# Altium footprint library COMPONENTES.PcbLib: 191 footprints (part 11 of 12)
Each footprint in its own frame and in the unit in brackets; x right, y up, seen from the top. Pads: shape width x height; smd on the part's side, far side on the other; paste and mask are expansions set on the pad; w line width, h text height; cw(c..) or ccw(c..) is an arc to the next point about the centre after c.
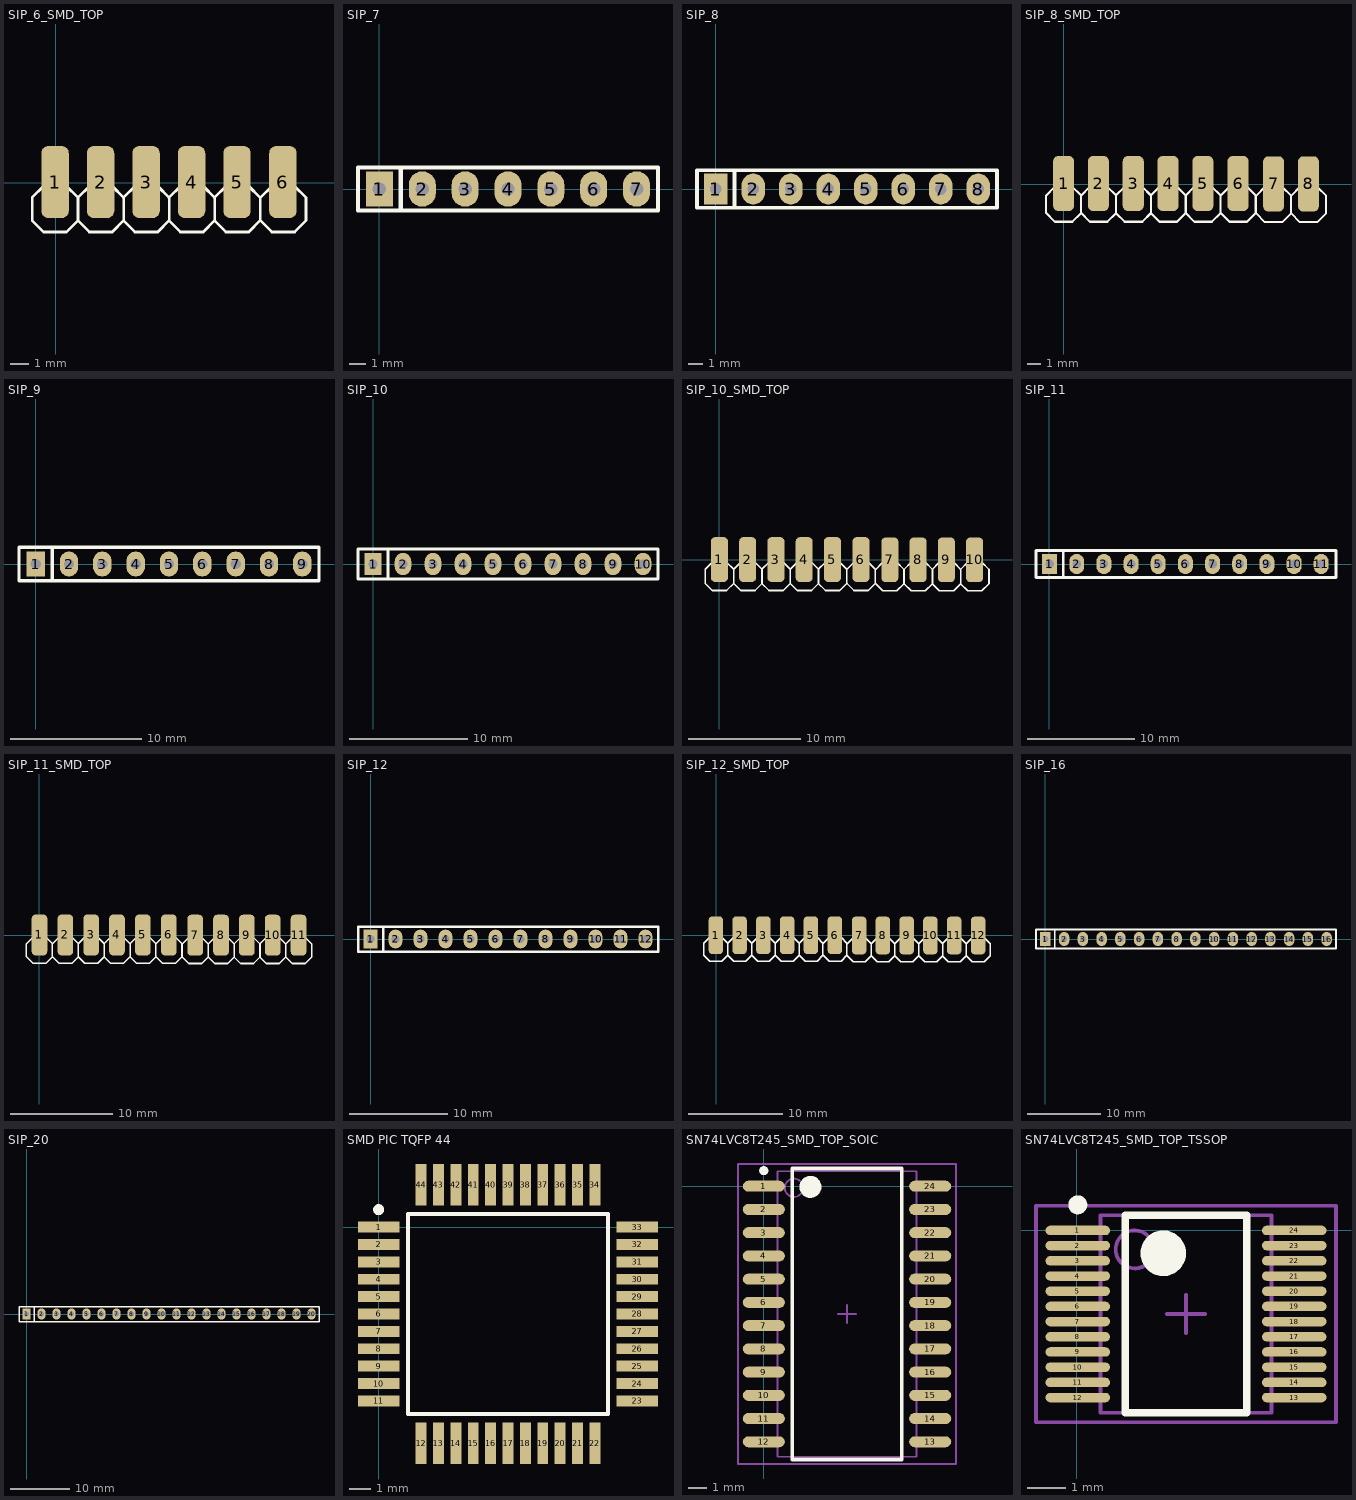
[diagram p10: the footprints below, top view; thin cyan lines are the x and y axes]

## SIP_6_SMD_TOP [mm]
pads (6):
  rrect50% 1.524x4 smd: 1(-0.05,0.025) 2(2.475,0.025) 3(5,0.025) 4(7.525,0.025) 5(10.05,0.025) 6(12.601,0.025)
Top Overlay:
  lines w0.152: 3.745,-2.11 4.38,-2.745 5.65,-2.745 6.285,-2.11 6.285,-0.84 5.65,-0.205 4.38,-0.205 3.745,-0.84 ; 6.27,-2.11 6.905,-2.745 8.175,-2.745 8.81,-2.11 8.81,-0.84 8.175,-0.205 6.905,-0.205 6.27,-0.84 ; 8.795,-2.11 9.43,-2.745 10.7,-2.745 11.335,-2.11 11.335,-0.84 10.7,-0.205 9.43,-0.205 8.795,-0.84 ; 11.346,-2.11 11.981,-2.745 13.251,-2.745 13.886,-2.11 13.886,-0.84 13.251,-0.205 11.981,-0.205 11.346,-0.84 ; 1.22,-2.11 1.22,-0.84 ; 1.22,-2.11 0.585,-2.745 -0.685,-2.745 -1.32,-2.11 -1.32,-0.84 -0.685,-0.205 0.585,-0.205 1.22,-0.84 ; 1.22,-2.11 1.855,-2.745 3.125,-2.745 3.76,-2.11 3.76,-0.84 3.125,-0.205 1.855,-0.205 1.22,-0.84

## SIP_7 [mm]
height 2.65
pads (7):
  rect 1.6x2.1 hole 0.8: 1(0,0)
  oval 1.6x2.1 hole 0.8: 2(2.54,0) 3(5.08,0) 4(7.62,0) 5(10.16,0) 6(12.7,0) 7(15.24,0)
Top Overlay:
  lines w0.254: 1.27,-1.27 1.27,1.27 ; -1.27,-1.27 -1.27,1.27 16.51,1.27 16.51,-1.27 -1.27,-1.27

## SIP_8 [mm]
height 2.65
pads (8):
  rect 1.6x2.1 hole 0.8: 1(0,0)
  oval 1.6x2.1 hole 0.8: 2(2.54,0) 3(5.08,0) 4(7.62,0) 5(10.16,0) 6(12.7,0) 7(15.24,0) 8(17.78,0)
Top Overlay:
  lines w0.254: 1.27,-1.27 1.27,1.27 ; -1.27,-1.27 -1.27,1.27 19.05,1.27 19.05,-1.27 -1.27,-1.27

## SIP_8_SMD_TOP [mm]
pads (8):
  rrect50% 1.524x4 smd: 1(0,0.05) 2(2.525,0.05) 3(5.05,0.05) 4(7.575,0.05) 5(10.1,0.05) 6(12.651,0.05) 7(15.225,0.025) 8(17.75,0.025)
Top Overlay:
  lines w0.152: 3.795,-2.085 4.43,-2.72 5.7,-2.72 6.335,-2.085 6.335,-0.815 5.7,-0.18 4.43,-0.18 3.795,-0.815 ; 6.32,-2.085 6.955,-2.72 8.225,-2.72 8.86,-2.085 8.86,-0.815 8.225,-0.18 6.955,-0.18 6.32,-0.815 ; 8.845,-2.085 9.48,-2.72 10.75,-2.72 11.385,-2.085 11.385,-0.815 10.75,-0.18 9.48,-0.18 8.845,-0.815 ; 11.396,-2.085 12.031,-2.72 13.301,-2.72 13.936,-2.085 13.936,-0.815 13.301,-0.18 12.031,-0.18 11.396,-0.815 ; 13.955,-2.11 14.59,-2.745 15.86,-2.745 16.495,-2.11 ; 13.955,-0.84 14.59,-0.205 15.86,-0.205 16.495,-0.84 ; 1.27,-2.085 1.905,-2.72 3.175,-2.72 3.81,-2.085 3.81,-0.815 3.175,-0.18 1.905,-0.18 1.27,-0.815 ; 1.27,-2.085 0.635,-2.72 -0.635,-2.72 -1.27,-2.085 -1.27,-0.815 -0.635,-0.18 0.635,-0.18 1.27,-0.815 ; 1.27,-2.085 1.27,-0.815 ; 16.495,-2.11 17.13,-2.745 18.4,-2.745 19.035,-2.11 19.035,-0.84 18.4,-0.205 17.13,-0.205 16.495,-0.84 ; 16.495,-2.11 16.495,-0.84

## SIP_9 [mm]
height 2.65
pads (9):
  rect 1.4x1.9 hole 0.8: 1(0,0)
  oval 1.4x1.9 hole 0.8: 2(2.54,0) 3(5.08,0) 4(7.62,0) 5(10.16,0) 6(12.7,0) 7(15.24,0) 8(17.78,0) 9(20.32,0)
Top Overlay:
  lines w0.254: 1.27,-1.27 1.27,1.27 ; -1.27,-1.27 21.59,-1.27 21.59,1.27 -1.27,1.27 -1.27,-1.27

## SIP_10 [mm]
height 2.65
pads (10):
  rect 1.4x1.9 hole 0.8: 1(0,0)
  oval 1.4x1.9 hole 0.8: 2(2.54,0) 3(5.08,0) 4(7.62,0) 5(10.16,0) 6(12.7,0) 7(15.24,0) 8(17.78,0) 9(20.32,0) 10(22.86,0)
Top Overlay:
  lines w0.254: 1.27,-1.27 1.27,1.27 ; -1.27,-1.27 -1.27,1.27 24.13,1.27 24.13,-1.27 -1.27,-1.27

## SIP_10_SMD_TOP [mm]
pads (10):
  rrect50% 1.524x4 smd: 1(0,0) 2(2.525,0) 3(5.05,0) 4(7.575,0) 5(10.1,0) 6(12.651,0) 7(15.225,-0.025) 8(17.75,-0.025) 9(20.275,-0.025) 10(22.8,-0.025)
Top Overlay:
  lines w0.152: 3.795,-2.135 4.43,-2.77 5.7,-2.77 6.335,-2.135 6.335,-0.865 5.7,-0.23 4.43,-0.23 3.795,-0.865 ; 6.32,-2.135 6.955,-2.77 8.225,-2.77 8.86,-2.135 8.86,-0.865 8.225,-0.23 6.955,-0.23 6.32,-0.865 ; 8.845,-2.135 9.48,-2.77 10.75,-2.77 11.385,-2.135 11.385,-0.865 10.75,-0.23 9.48,-0.23 8.845,-0.865 ; 11.396,-2.135 12.031,-2.77 13.301,-2.77 13.936,-2.135 13.936,-0.865 13.301,-0.23 12.031,-0.23 11.396,-0.865 ; 13.955,-2.16 14.59,-2.795 15.86,-2.795 16.495,-2.16 ; 13.955,-0.89 14.59,-0.255 15.86,-0.255 16.495,-0.89 ; 19.02,-2.16 19.655,-2.795 20.925,-2.795 21.56,-2.16 21.56,-0.89 20.925,-0.255 19.655,-0.255 19.02,-0.89 ; 21.545,-2.16 22.18,-2.795 23.45,-2.795 24.085,-2.16 24.085,-0.89 23.45,-0.255 22.18,-0.255 21.545,-0.89 ; 1.27,-2.135 1.905,-2.77 3.175,-2.77 3.81,-2.135 3.81,-0.865 3.175,-0.23 1.905,-0.23 1.27,-0.865 ; 1.27,-2.135 0.635,-2.77 -0.635,-2.77 -1.27,-2.135 -1.27,-0.865 -0.635,-0.23 0.635,-0.23 1.27,-0.865 ; 1.27,-2.135 1.27,-0.865 ; 16.495,-2.16 17.13,-2.795 18.4,-2.795 19.035,-2.16 19.035,-0.89 18.4,-0.255 17.13,-0.255 16.495,-0.89 ; 16.495,-2.16 16.495,-0.89

## SIP_11 [mm]
pads (11):
  rect 1.4x1.9 hole 0.8: 1(0.025,0)
  oval 1.4x1.9 hole 0.8: 2(2.565,0) 3(5.105,0) 4(7.645,0) 5(10.185,0) 6(12.725,0) 7(15.265,0) 8(17.805,0) 9(20.345,0) 10(22.885,0) 11(25.425,0)
Top Overlay:
  lines w0.254: 1.295,-1.27 1.295,1.27 ; 26.8,1.27 -1.245,1.27 -1.245,-1.27 26.81,-1.27 26.81,1.27

## SIP_11_SMD_TOP [mm]
pads (11):
  rrect50% 1.524x4 smd: 1(0,0.025) 2(2.525,0.025) 3(5.05,0.025) 4(7.575,0.025) 5(10.1,0.025) 6(12.651,0.025) 7(15.225,0) 8(17.75,0) 9(20.275,0) 10(22.8,0) 11(25.325,0)
Top Overlay:
  lines w0.152: 3.795,-2.11 4.43,-2.745 5.7,-2.745 6.335,-2.11 6.335,-0.84 5.7,-0.205 4.43,-0.205 3.795,-0.84 ; 6.32,-2.11 6.955,-2.745 8.225,-2.745 8.86,-2.11 8.86,-0.84 8.225,-0.205 6.955,-0.205 6.32,-0.84 ; 8.845,-2.11 9.48,-2.745 10.75,-2.745 11.385,-2.11 11.385,-0.84 10.75,-0.205 9.48,-0.205 8.845,-0.84 ; 11.396,-2.11 12.031,-2.745 13.301,-2.745 13.936,-2.11 13.936,-0.84 13.301,-0.205 12.031,-0.205 11.396,-0.84 ; 13.955,-2.135 14.59,-2.77 15.86,-2.77 16.495,-2.135 ; 13.955,-0.865 14.59,-0.23 15.86,-0.23 16.495,-0.865 ; 19.02,-2.135 19.655,-2.77 20.925,-2.77 21.56,-2.135 21.56,-0.865 20.925,-0.23 19.655,-0.23 19.02,-0.865 ; 21.545,-2.135 22.18,-2.77 23.45,-2.77 24.085,-2.135 24.085,-0.865 23.45,-0.23 22.18,-0.23 21.545,-0.865 ; 24.07,-2.135 24.705,-2.77 25.975,-2.77 26.61,-2.135 26.61,-0.865 25.975,-0.23 24.705,-0.23 24.07,-0.865 ; 1.27,-2.11 1.905,-2.745 3.175,-2.745 3.81,-2.11 3.81,-0.84 3.175,-0.205 1.905,-0.205 1.27,-0.84 ; 1.27,-2.11 0.635,-2.745 -0.635,-2.745 -1.27,-2.11 -1.27,-0.84 -0.635,-0.205 0.635,-0.205 1.27,-0.84 ; 1.27,-2.11 1.27,-0.84 ; 16.495,-2.135 17.13,-2.77 18.4,-2.77 19.035,-2.135 19.035,-0.865 18.4,-0.23 17.13,-0.23 16.495,-0.865 ; 16.495,-2.135 16.495,-0.865

## SIP_12 [mm]
height 2.65
pads (12):
  rect 1.4x1.9 hole 0.8: 1(0,0)
  oval 1.4x1.9 hole 0.8: 2(2.54,0) 3(5.08,0) 4(7.62,0) 5(10.16,0) 6(12.7,0) 7(15.24,0) 8(17.78,0) 9(20.32,0) 10(22.86,0) 11(25.4,0) 12(27.94,0)
Top Overlay:
  lines w0.254: 1.27,-1.27 1.27,1.27 ; -1.27,-1.27 -1.27,1.27 29.21,1.27 29.21,-1.27 -1.27,-1.27

## SIP_12_SMD_TOP [mm]
pads (12):
  rrect50% 1.524x4 smd: 1(-0.025,0.025) 2(2.5,0.025) 3(5.025,0.025) 4(7.55,0.025) 5(10.075,0.025) 6(12.626,0.025) 7(15.2,0) 8(17.725,0) 9(20.25,0) 10(22.775,0) 11(25.3,0) 12(27.851,0)
Top Overlay:
  lines w0.152: 3.77,-2.11 4.405,-2.745 5.675,-2.745 6.31,-2.11 6.31,-0.84 5.675,-0.205 4.405,-0.205 3.77,-0.84 ; 6.295,-2.11 6.93,-2.745 8.2,-2.745 8.835,-2.11 8.835,-0.84 8.2,-0.205 6.93,-0.205 6.295,-0.84 ; 8.82,-2.11 9.455,-2.745 10.725,-2.745 11.36,-2.11 11.36,-0.84 10.725,-0.205 9.455,-0.205 8.82,-0.84 ; 11.371,-2.11 12.006,-2.745 13.276,-2.745 13.911,-2.11 13.911,-0.84 13.276,-0.205 12.006,-0.205 11.371,-0.84 ; 13.93,-2.135 14.565,-2.77 15.835,-2.77 16.47,-2.135 ; 13.93,-0.865 14.565,-0.23 15.835,-0.23 16.47,-0.865 ; 18.995,-2.135 19.63,-2.77 20.9,-2.77 21.535,-2.135 21.535,-0.865 20.9,-0.23 19.63,-0.23 18.995,-0.865 ; 21.52,-2.135 22.155,-2.77 23.425,-2.77 24.06,-2.135 24.06,-0.865 23.425,-0.23 22.155,-0.23 21.52,-0.865 ; 24.045,-2.135 24.68,-2.77 25.95,-2.77 26.585,-2.135 26.585,-0.865 25.95,-0.23 24.68,-0.23 24.045,-0.865 ; 26.596,-2.135 27.231,-2.77 28.501,-2.77 29.136,-2.135 29.136,-0.865 28.501,-0.23 27.231,-0.23 26.596,-0.865 ; 1.245,-2.11 1.88,-2.745 3.15,-2.745 3.785,-2.11 3.785,-0.84 3.15,-0.205 1.88,-0.205 1.245,-0.84 ; 1.245,-2.11 0.61,-2.745 -0.66,-2.745 -1.295,-2.11 -1.295,-0.84 -0.66,-0.205 0.61,-0.205 1.245,-0.84 ; 1.245,-2.11 1.245,-0.84 ; 16.47,-2.135 17.105,-2.77 18.375,-2.77 19.01,-2.135 19.01,-0.865 18.375,-0.23 17.105,-0.23 16.47,-0.865 ; 16.47,-2.135 16.47,-0.865

## SIP_16 [mm]
height 2.65
pads (16):
  rect 1.4x1.9 hole 0.8: 1(0,0)
  oval 1.4x1.9 hole 0.8: 2(2.54,0) 3(5.08,0) 4(7.62,0) 5(10.16,0) 6(12.7,0) 7(15.24,0) 8(17.78,0) 9(20.32,0) 10(22.86,0) 11(25.4,0) 12(27.94,0) 13(30.48,0) 14(33.02,0) 15(35.56,0) 16(38.1,0)
Top Overlay:
  lines w0.254: 1.27,-1.27 1.27,1.27 ; -1.27,-1.27 -1.27,1.27 39.37,1.27 39.37,-1.27 -1.27,-1.27

## SIP_20 [mm]
height 2.65
pads (20):
  rect 1.4x1.9 hole 0.8: 1(0,0)
  oval 1.4x1.9 hole 0.8: 2(2.54,0) 3(5.08,0) 4(7.62,0) 5(10.16,0) 6(12.7,0) 7(15.24,0) 8(17.78,0) 9(20.32,0) 10(22.86,0) 11(25.4,0) 12(27.94,0) 13(30.48,0) 14(33.02,0) 15(35.56,0) 16(38.1,0) 17(40.64,0) 18(43.18,0) 19(45.72,0) 20(48.26,0)
Top Overlay:
  lines w0.254: 1.27,-1.27 1.27,1.27 ; -1.27,-1.27 49.53,-1.27 49.53,1.27 -1.27,1.27 -1.27,-1.27

## SMD PIC TQFP 44 [mm]
pads (44):
  rect 1.9x0.5 smd: 1(0,0) 2(0,-0.8) 3(0,-1.6) 4(0,-2.4) 5(0,-3.2) 6(0,-4) 7(0,-4.8) 8(0,-5.6) 9(0,-6.4) 10(0,-7.2) 11(0,-8) 23(11.9,-8) 24(11.9,-7.2) 25(11.9,-6.4) 26(11.9,-5.6) 27(11.9,-4.8) 28(11.9,-4) 29(11.9,-3.2) 30(11.9,-2.4) 31(11.9,-1.6) 32(11.9,-0.8) 33(11.9,0)
  rect 0.5x1.9 smd: 12(1.95,-9.95) 13(2.75,-9.95) 14(3.55,-9.95) 15(4.35,-9.95) 16(5.15,-9.95) 17(5.95,-9.95) 18(6.75,-9.95) 19(7.55,-9.95) 20(8.35,-9.95) 21(9.15,-9.95) 22(9.95,-9.95) 34(9.95,1.95) 35(9.15,1.95) 36(8.35,1.95) 37(7.55,1.95) 38(6.75,1.95) 39(5.95,1.95) 40(5.15,1.95) 41(4.35,1.95) 42(3.55,1.95) 43(2.75,1.95) 44(1.95,1.95)
Top Overlay:
  circle w0.25: c0,0.8 r0.125
  lines w0.2: 1.35,-8.6 10.55,-8.6 10.55,0.6 1.35,0.6 1.35,-8.6

## SN74LVC8T245_SMD_TOP_SOIC [mm]
pads (24):
  oval 2.3x0.6 smd: 1(0,0) 2(0,-1.27) 3(0,-2.54) 4(0,-3.81) 5(0,-5.08) 6(0,-6.35) 7(0,-7.62) 8(0,-8.89) 9(0,-10.16) 10(0,-11.43) 11(0,-12.7) 12(0,-13.97) 13(9.1,-13.97) 14(9.1,-12.7) 15(9.1,-11.43) 16(9.1,-10.16) 17(9.1,-8.89) 18(9.1,-7.62) 19(9.1,-6.35) 20(9.1,-5.08) 21(9.1,-3.81) 22(9.1,-2.54) 23(9.1,-1.27) 24(9.1,0)
Top Overlay:
  circle w0.25: c0,0.85 r0.125
  circle w0.6: c2.55,-0.035 r0.3
  lines w0.2: 1.55,-14.935 1.55,0.965 7.55,0.965 7.55,-14.935 1.55,-14.935
Mechanical 13:
  circle w0.1: c1.65,-0.085 r0.5
  lines w0.1: 0.75,-14.785 0.75,0.815 8.35,0.815 8.35,-14.785 0.75,-14.785
Mechanical 15:
  lines w0.1: 4.05,-6.985 5.05,-6.985 ; 4.55,-7.485 4.55,-6.485 ; -1.4,-15.185 -1.4,1.215 10.5,1.215 10.5,-15.185 -1.4,-15.185
3D body: height 2.65, standoff 0, extent 0.75,-14.785 8.35,0.815

## SN74LVC8T245_SMD_TOP_TSSOP [mm]
pads (24):
  oval 1.7x0.25 smd: 1(0.025,-0.005) 2(0.025,-0.405) 3(0.025,-0.805) 4(0.025,-1.205) 5(0.025,-1.605) 6(0.025,-2.005) 7(0.025,-2.405) 8(0.025,-2.805) 9(0.025,-3.205) 10(0.025,-3.605) 11(0.025,-4.005) 12(0.025,-4.405) 13(5.725,-4.405) 14(5.725,-4.005) 15(5.725,-3.605) 16(5.725,-3.205) 17(5.725,-2.805) 18(5.725,-2.405) 19(5.725,-2.005) 20(5.725,-1.605) 21(5.725,-1.205) 22(5.725,-0.805) 23(5.725,-0.405) 24(5.725,-0.005)
Top Overlay:
  circle w0.6: c2.275,-0.605 r0.3
  circle w0.25: c0.025,0.67 r0.125
  lines w0.2: 1.275,-4.805 4.475,-4.805 4.475,0.395 1.275,0.395 1.275,-4.805
Mechanical 13:
  circle w0.1: c1.525,-0.505 r0.5
  lines w0.1: 0.625,-4.805 5.125,-4.805 5.125,0.395 0.625,0.395 0.625,-4.805
Mechanical 15:
  lines w0.1: 2.375,-2.205 3.375,-2.205 ; 2.875,-2.705 2.875,-1.705 ; -1.075,-5.055 6.825,-5.055 6.825,0.645 -1.075,0.645 -1.075,-5.055
3D body: height 1.2, standoff 0, extent 0.625,-4.805 5.125,0.395